# Altium footprint library QUTMS_MicrofitLibrary.PcbLib: 64 footprints (part 1 of 4)
Each footprint in its own frame and in the unit in brackets; x right, y up, seen from the top. Pads: shape width x height; smd on the part's side, far side on the other; paste and mask are expansions set on the pad; w line width, h text height; cw(c..) or ccw(c..) is an arc to the next point about the centre after c.
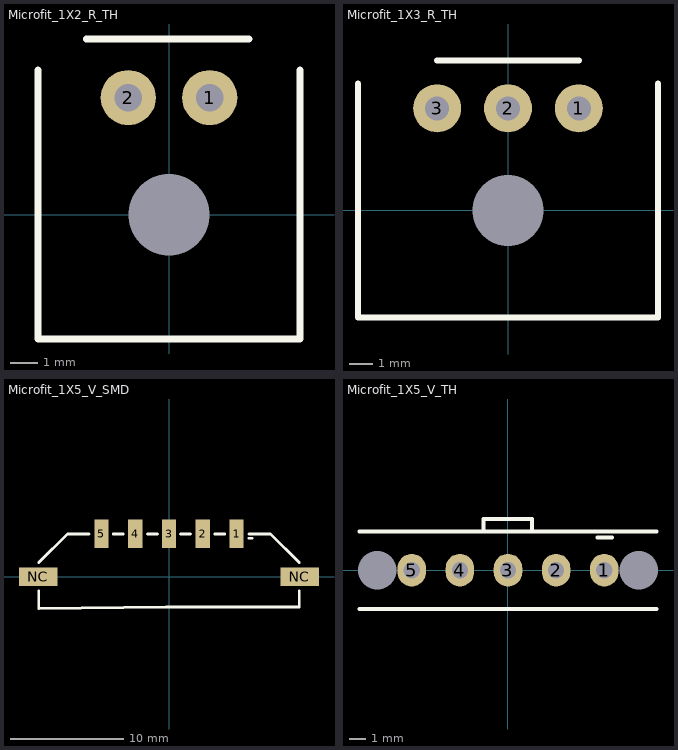
[diagram p0: the footprints below, top view; thin cyan lines are the x and y axes]

## Microfit_1X2_R_SMD [mil]

## Microfit_1X2_R_TH [mil]
pads (3):
  round 80 hole 40: 1(59.06,170) 2(-59.06,170)
  round 0 hole 118.11 mask+10: NC(0,0)
Top Overlay:
  lines w10: -190,210 -190,-180 190,-180 190,210 ; -120,255 116.22,255
3D body "436500201.stp": height 223.43, standoff -127.17, extent -189.96,-179.88 189.97,209.89

## Microfit_1X2_V_SMD [mil]

## Microfit_1X2_V_TH [mil]

## Microfit_1X3_R_SMD [mil]

## Microfit_1X3_R_TH [mil]
pads (4):
  round 80 hole 40: 1(118.11,170.08) 2(0,170.08) 3(-118.11,170.08)
  round 0 hole 118.11 mask+10: NC(0,0)
Top Overlay:
  lines w10: -250,211.09 -250,-178.91 250,-178.91 250,211.09 ; -118.11,250 118.11,250
3D body "436500300.stp": height 223.43, standoff -127.17, extent -249.01,-179.88 249.02,209.89

## Microfit_1X3_V_SMD [mil]

## Microfit_1X3_V_TH [mil]

## Microfit_1X4_R_SMD [mil]

## Microfit_1X4_R_TH [mil]

## Microfit_1X4_V_SMD [mil]

## Microfit_1X4_V_TH [mil]

## Microfit_1X5_R_SMD [mil]

## Microfit_1X5_R_TH [mil]

## Microfit_1X5_V_SMD [mm] "436500525"
pads (7):
  rect 1.27x2.54 smd: 1(6,3.81) 2(3,3.81) 3(0,3.81) 4(-3,3.81) 5(-6,3.81)
  rect 3.429x1.651 smd: NC(-11.6,0) NC(11.6,0)
Top Overlay:
  lines w0.254: -11.557,-1.27 -11.557,-2.804 -0.261,-2.68 11.557,-2.68 11.557,-1.27 ; -11.557,1.27 -9.017,3.81 -7.112,3.81 ; -4.953,3.81 -4.064,3.81 ; -1.905,3.81 -1.016,3.81 ; 1.016,3.81 1.905,3.81 ; 4.064,3.81 4.953,3.81 ; 7.112,3.429 7.366,3.429 ; 7.112,3.81 9.017,3.81 11.557,1.27
3D body "436500525.stp": height 10.03, standoff 0.1, extent -11.32,-2.47 11.32,4.1

## Microfit_1X5_V_TH [mil]
pads (7):
  oval 70x80 hole 40: 1(236.22,0) 2(118.11,0) 3(0,0) 4(-118.11,0) 5(-236.22,0)
  round 0 hole 95 unplated: NC(-320.87,0) NC(320.87,0)
Top Overlay:
  lines w10: -365,-95 365,-95 ; -365,95 365,95 ; -60,95 -60,125 59.06,125 59.06,95 ; 220,80 255,80
3D body "436500519.stp": height 394.88, standoff -120.08, extent -366.92,-97.24 366.94,123.43